# Altium footprint library 贴片元器件.PCBLIB: 208 footprints (part 7 of 13)
Each footprint in its own frame and in the unit in brackets; x right, y up, seen from the top. Pads: shape width x height; smd on the part's side, far side on the other; paste and mask are expansions set on the pad; w line width, h text height; cw(c..) or ccw(c..) is an arc to the next point about the centre after c.
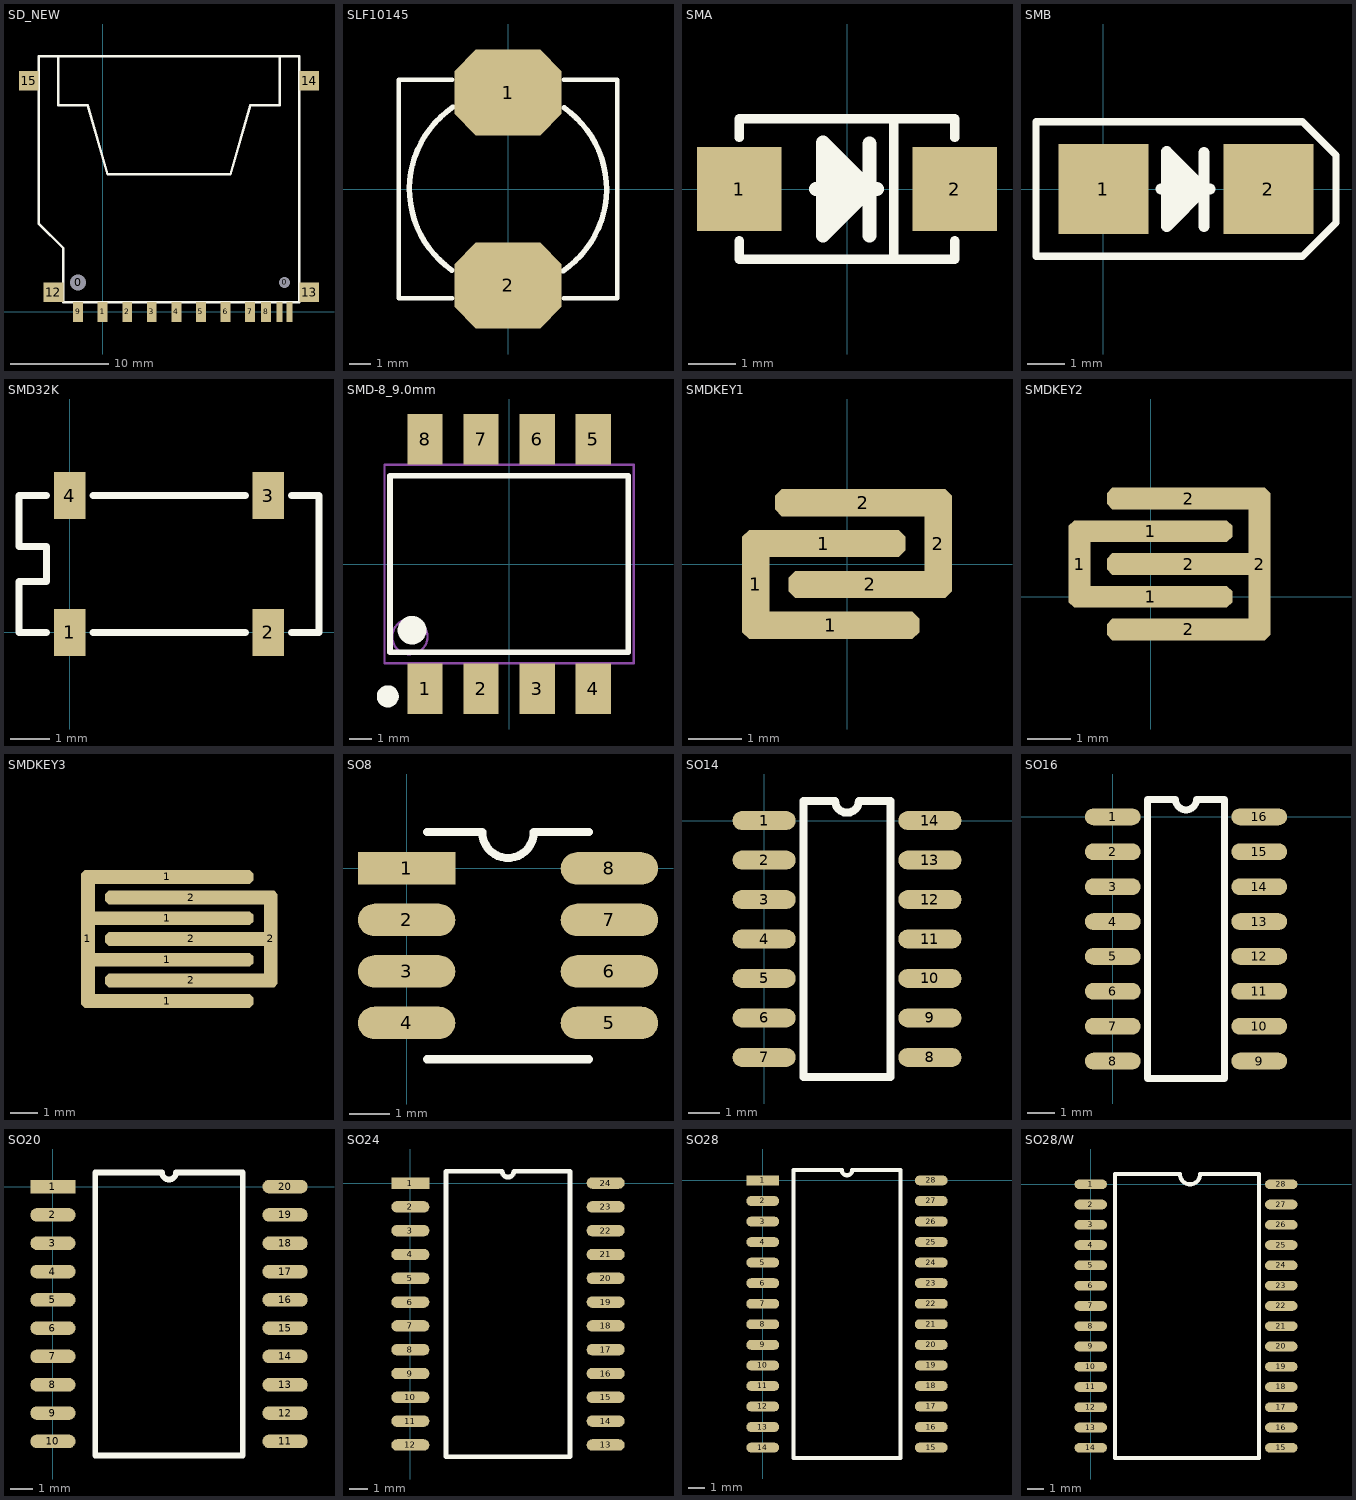
[diagram p6: the footprints below, top view; thin cyan lines are the x and y axes]

## SD_NEW [mm]
pads (17):
  round 1.5 hole 1.6: 0(-2.5,3)
  round 1 hole 1.1: 0(18.5,3)
  rect 1x2 smd: 1(0,0) 2(2.5,0) 3(5,0) 4(7.5,0) 5(10,0) 6(12.5,0) 7(15,0) 8(16.625,0) 9(-2.5,0)
  rect 0.6x2 smd: 10(19,0) 11(18,0)
  rect 2x2 smd: 12(-5,2) 13(21,2) 14(21,23.5) 15(-7.5,23.5)
TopOverlay:
  lines w0.254: -4.5,26 -4.5,21 -1.5,21 0.5,14 13,14 15,21 18,21 18,26 ; -6.5,9 -4,6.5 -4,1 20,1 20,26 -6.5,26 -6.5,9

## SLF10145 [mm]
pads (2):
  oct 5x4 smd: 1(0,4.5) 2(0,-4.5)
TopOverlay:
  lines w0.2: -2.6,-5.1 -5.1,-5.1 -5.1,5.1 -2.6,5.1 ; 2.6,-5.1 5.1,-5.1 5.1,5.1 2.6,5.1
  lines w0.254: -2.618,-3.782 cw(c0,0) -2.552,3.827 ; 2.552,-3.827 ccw(c0,0) 2.618,3.782

## SMA [mm]
pads (2):
  rect 1.8x1.8 smd: 1(-2.3,0) 2(2.3,0)
TopOverlay:
  lines w0.2: -2.3,-1.1 -2.3,-1.5 2.3,-1.5 2.3,-1.1 ; -2.3,1.1 -2.3,1.5 2.3,1.5 2.3,1.1 ; 1,-1.5 1,1.5
  lines w0.305: -0.662,0 0.633,0 ; -0.383,-0.686 -0.383,0.711 ; -0.256,-0.584 -0.256,0.457 -0.256,0.61 ; -0.154,-0.508 -0.154,0.483 ; -0.027,-0.381 -0.027,0.432 ; 0.049,-0.279 0.049,0.254 ; 0.16,-0.193 0.16,0.319 ; 0.227,-0.127 0.227,0.127 ; 0.48,-0.992 0.48,0.964 ; -0.511,-0.992 0.48,-0.001 -0.511,0.99 -0.511,-0.992

## SMB [mm]
pads (2):
  rect 2.4x2.4 smd: 1(0,0) 2(4.4,0)
TopOverlay:
  lines w0.2: -1.8,-1.8 -1.8,1.8 5.3,1.8 6.2,0.9 6.2,-0.9 5.3,-1.8 -1.8,-1.8
  lines w0.305: 1.538,0 2.833,0 ; 1.817,-0.686 1.817,0.711 ; 1.944,-0.584 1.944,0.457 1.944,0.61 ; 2.046,-0.508 2.046,0.483 ; 2.173,-0.381 2.173,0.432 ; 2.249,-0.279 2.249,0.254 ; 2.36,-0.193 2.36,0.319 ; 2.427,-0.127 2.427,0.127 ; 2.68,-0.992 2.68,0.964 ; 1.689,-0.992 1.689,0.99 2.68,-0.001 1.689,-0.992

## SMD32K [mm]
pads (4):
  rect 0.8x1.2 smd: 1(0,0) 2(5.08,0) 3(5.08,3.5) 4(0,3.5)
TopOverlay:
  lines w0.178: -0.6,0 -1.3,0 -1.3,1.3 -0.6,1.3 -0.6,2.2 -1.3,2.2 -1.3,3.5 -0.6,3.5 ; 0.6,0 4.5,0 ; 0.6,3.5 4.5,3.5 ; 5.68,0 6.38,0 6.38,3.5 5.68,3.5

## SMD-8_9.0mm [mm]
pads (8):
  rect 1.6x2.3 smd: 1(-3.81,-5.65) 2(-1.27,-5.65) 3(1.27,-5.65) 4(3.81,-5.65) 5(3.81,5.65) 6(1.27,5.65) 7(-1.27,5.65) 8(-3.81,5.65)
TopOverlay:
  circle w0.7: c-4.4,-3 r0.3
  circle w0.5: c-5.5,-6 r0.25
  lines w0.254: -5.4,-4 -5.4,4 5.4,4 5.4,-4 -5.4,-4
Mechanical13:
  circle w0.1: c-4.5,-3.3 r0.8
  lines w0.1: -5.65,-4.5 5.65,-4.5 5.65,4.5 -5.65,4.5 -5.65,-4.5

## SMDKEY1 [mil]
pads (6):
  oct 20x80 smd: 1(-66.93,-15) 2(66.93,15)
  oct 120x20 smd: 1(-16.93,15) 2(17.07,-15)
  oct 130x20 smd: 1(-11.93,-45) 2(12.07,45)

## SMDKEY2 [mil]
pads (7):
  oct 20x80 smd: 1(-65,30)
  oct 150x20 smd: 1(0,0) 1(0,60) 2(35,-30) 2(35,30) 2(35,90)
  oct 20x140 smd: 2(100,30)

## SMDKEY3 [mil]
pads (9):
  oct 20x200 smd: 1(-50132.5,-50000)
  oct 250x20 smd: 1(-50017.5,-50090) 1(-50017.5,-50030) 1(-50017.5,-49970) 1(-50017.5,-49910) 2(-49982.5,-50060) 2(-49982.5,-50000) 2(-49982.5,-49940)
  oct 20x140 smd: 2(-49867.5,-50000)

## SO8 [mm]
pads (8):
  rect 2.4x0.8 smd: 1(0,0)
  oval 2.4x0.8 smd: 2(0,-1.27) 3(0,-2.54) 4(0,-3.81) 5(5,-3.81) 6(5,-2.54) 7(5,-1.27) 8(5,0)
TopOverlay:
  lines w0.2: 0.5,-4.705 4.5,-4.705 ; 0.5,0.895 1.865,0.895 ccw(c2.5,0.895) 3.135,0.895 4.5,0.895

## SO14 [mil]
pads (14):
  oval 80x24 smd: 1(0,0) 2(0,-50) 3(0,-100) 4(0,-150) 5(0,-200) 6(0,-250) 7(0,-300) 8(210,-300) 9(210,-250) 10(210,-200) 11(210,-150) 12(210,-100) 13(210,-50) 14(210,0)
TopOverlay:
  lines w10: 50,-325 50,25 90,25 ccw(c105,25) 120,25 160,25 160,-325 50,-325

## SO16 [mil]
pads (16):
  oval 80x24 smd: 1(0,0) 2(0,-50) 3(0,-100) 4(0,-150) 5(0,-200) 6(0,-250) 7(0,-300) 8(0,-350) 9(210,-350) 10(210,-300) 11(210,-250) 12(210,-200) 13(210,-150) 14(210,-100) 15(210,-50) 16(210,0)
TopOverlay:
  lines w10: 50,-375 50,25 90,25 ccw(c105,25) 120,25 160,25 160,-375 50,-375

## SO20 [mil]
pads (20):
  rect 80x24 smd: 1(0,0)
  oval 80x24 smd: 2(0,-50) 3(0,-100) 4(0,-150) 5(0,-200) 6(0,-250) 7(0,-300) 8(0,-350) 9(0,-400) 10(0,-450) 11(410,-450) 12(410,-400) 13(410,-350) 14(410,-300) 15(410,-250) 16(410,-200) 17(410,-150) 18(410,-100) 19(410,-50) 20(410,0)
TopOverlay:
  lines w10: 75,-475 335,-475 335,25 217.5,25 cw(c205,25) 192.5,25 75,25 75,-475

## SO24 [mil]
pads (24):
  rect 80x24 smd: 1(0,0)
  oval 80x24 smd: 2(0,-50) 3(0,-100) 4(0,-150) 5(0,-200) 6(0,-250) 7(0,-300) 8(0,-350) 9(0,-400) 10(0,-450) 11(0,-500) 12(0,-550) 13(410,-550) 14(410,-500) 15(410,-450) 16(410,-400) 17(410,-350) 18(410,-300) 19(410,-250) 20(410,-200) 21(410,-150) 22(410,-100) 23(410,-50) 24(410,0)
TopOverlay:
  lines w10: 75,-575 75,25 192.5,25 ccw(c205,25) 217.5,25 335,25 335,-575 75,-575

## SO28 [mil]
pads (28):
  rect 80x24 smd: 1(0,0)
  oval 80x24 smd: 2(0,-50) 3(0,-100) 4(0,-150) 5(0,-200) 6(0,-250) 7(0,-300) 8(0,-350) 9(0,-400) 10(0,-450) 11(0,-500) 12(0,-550) 13(0,-600) 14(0,-650) 15(410,-650) 16(410,-600) 17(410,-550) 18(410,-500) 19(410,-450) 20(410,-400) 21(410,-350) 22(410,-300) 23(410,-250) 24(410,-200) 25(410,-150) 26(410,-100) 27(410,-50) 28(410,0)
TopOverlay:
  lines w10: 75,-675 335,-675 335,25 217.5,25 cw(c205,25) 192.5,25 75,25 75,-675

## SO28/W [mil]
pads (28):
  oval 80x24 smd: 1(0,0) 2(0,-50) 3(0,-100) 4(0,-150) 5(0,-200) 6(0,-250) 7(0,-300) 8(0,-350) 9(0,-400) 10(0,-450) 11(0,-500) 12(0,-550) 13(0,-600) 14(0,-650) 15(470,-650) 16(470,-600) 17(470,-550) 18(470,-500) 19(470,-450) 20(470,-400) 21(470,-350) 22(470,-300) 23(470,-250) 24(470,-200) 25(470,-150) 26(470,-100) 27(470,-50) 28(470,0)
TopOverlay:
  lines w10: 60,-675 415,-675 415,25 270,25 cw(c245,25) 220,25 60,25 60,-675